# Altium footprint library 2.8inch_MSP2807_PCB_Package_Library.PcbLib: 1 footprints
Each footprint in its own frame and in the unit in brackets; x right, y up, seen from the top. Pads: shape width x height; smd on the part's side, far side on the other; paste and mask are expansions set on the pad; w line width, h text height; cw(c..) or ccw(c..) is an arc to the next point about the centre after c.
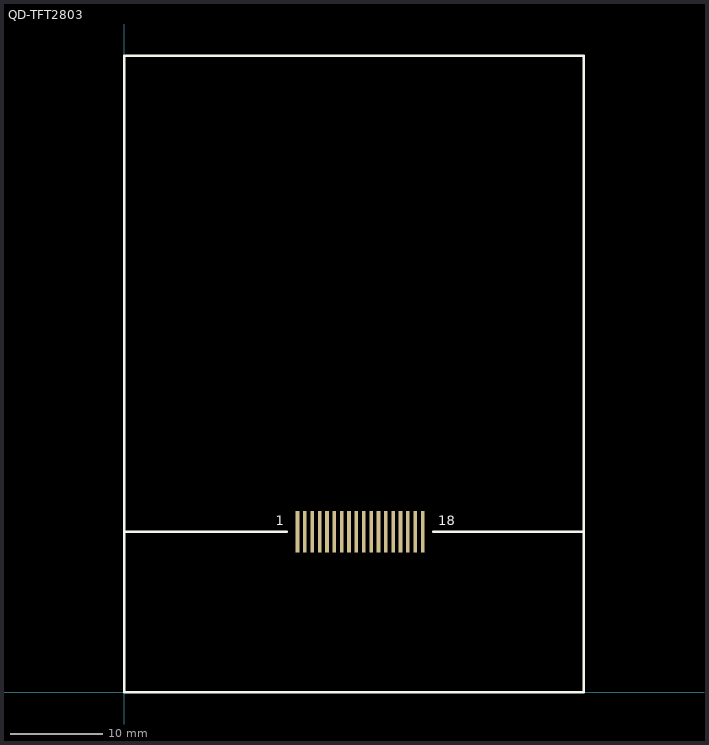
[diagram p0: the footprint, top view; thin cyan lines are the x and y axes]

## QD-TFT2803 [mm]
pads (18):
  rect 0.4x4.5 smd: 1(18.86,17.46) 2(19.66,17.46) 3(20.46,17.46) 4(21.26,17.46) 5(22.06,17.46) 6(22.86,17.46) 7(23.66,17.46) 8(24.46,17.46) 9(25.26,17.46) 10(26.06,17.46) 11(26.86,17.46) 12(27.66,17.46) 13(28.46,17.46) 14(29.26,17.46) 15(30.06,17.46) 16(30.86,17.46) 17(31.66,17.46) 18(32.46,17.46)
Top Overlay:
  lines w0.254: 0,17.46 17.7,17.46 ; 33.636,17.46 50,17.46 ; 0,0 0,69.2 50,69.2 50,0 0,0
  text "1" at 16.51,18.161 h1.02
  text "18" at 34.163,18.161 h1.02